# Altium schematic symbol library Integrated-Circuit.SchLib: 59 symbols
Pins are listed as number, name and electrical type; pins without a type are passive.

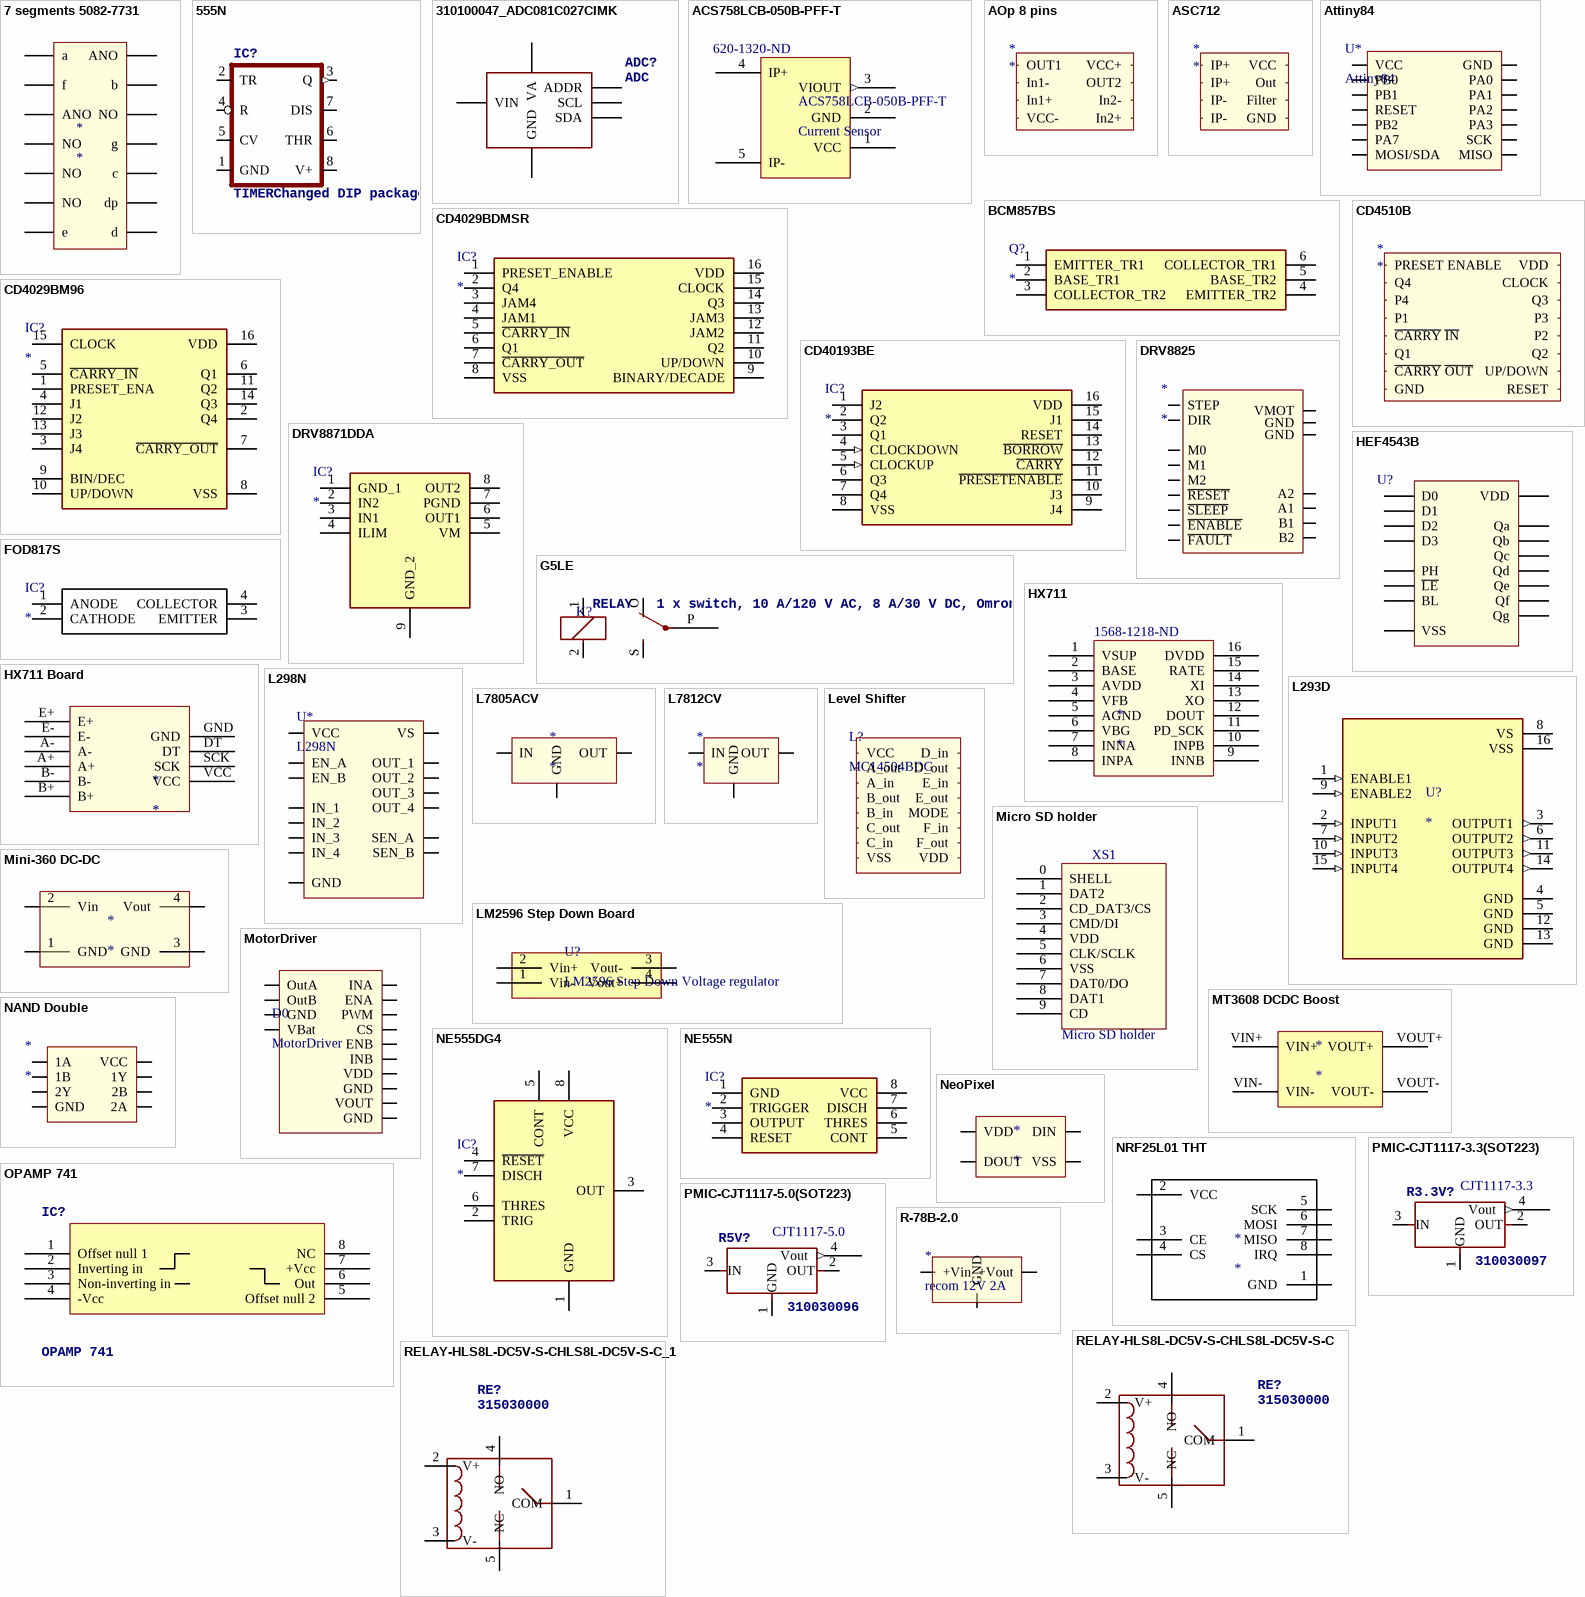
[diagram p0: symbols 7 segments 5082-7731 to RELAY-HLS8L-DC5V-S-CHLS8L-DC5V-S-C_1]

## 7 segments 5082-7731
designator *
Afficheur à 7 segments LED
pins: 18 a, 19 f, 20 ANO, 21 NO, 22 NO, 23 NO, 24 e, 25 d, 26 dp, 27 c, 28 g, 29 NO, 30 b, 31 ANO

## 555N
designator IC?, comment TIMERChanged DIP package to have round (not oval) pin pads    http://www.ladyada.net/library/pcb/eaglelibrary.html
footprint DIL08-ROUND
pins: 1 GND (power), 2 TR, 3 Q (out), 4 R, 5 CV, 6 THR, 7 DIS, 8 V+ (power)

## 310100047_ADC081C027CIMK
designator ADC?, comment ADC
footprint SOT236
pins: 1 VA (power), 2 GND (power), 3 VIN, 4 ADDR, 5 SCL, 6 SDA

## ACS758LCB-050B-PFF-T
designator ACS758LCB-050B-PFF-T, comment Current Sensor  Supplier Part Number 1: 620-1320-ND
Thermally Enhanced, Fully Integrated, Hall Effect-Based  Linear Current Sensor IC with 100 µΩ Current Conductor; Manufacturer: Allegro MicroSystems, LLC; Manufacturer Part Number: ACS758LCB-050B-PFF-T; For Measuring: AC/DC; Sensor Type: Hall Effect, Open Loop; Current - Sensing: 50A; Number of Channels: 1; Output: Ratiometric, Voltage; Sensitivity: 40mV/A; Frequency: DC ~ 120kHz; Linearity: ±1%; Accuracy: ±2%; Voltage - Supply: 3 V ~ 5.5 V; Response Time: 4µs; Current - Supply (Max): 13.5mA; Polarization: Bidirectional; Supplier 1: Digi-Key; RoHS: RoHS Compliant; Category: Sensors, Transducers; Stock 1: 7507; Pricing 1: 1=7.98, 5=7, 10=6.3, 25=5.6, 50=5.18, 100=4.48, 500=4.2, 1000=3.92, 5000=3.724 (USD); Packaging: Tube; Operating Temperature: -40°C ~ 150°C; Mounting Type: Through Hole; Package / Case: 5-CB Formed Leads, PFF; ComponentLink1URL: http://www.allegromicro.com/en/Products/Part_Numbers/0758/0758.pdf; ComponentLink1Description: http://www.allegromicro.com/en/Products/Part_Numbers/0758/0758.pdf
footprint ACS758LCB-050B-PFF-T
pins: 1 VCC (power), 2 GND (power), 3 VIOUT (out), 4 IP+ (power), 5 IP- (power)

## AOp 8 pins
designator *
footprint SO8
pins: 1 OUT1, 2 In1-, 3 In1+, 4 VCC-, 5 In2+, 6 In2-, 7 OUT2, 8 VCC+

## ASC712
designator *
footprint SOIC 8 (Footprint not found)
pins: 1 IP+, 2 IP+, 3 IP-, 4 IP-, 5 GND, 6 Filter, 7 Out, 8 VCC

## Attiny84
designator U*
footprint Attiny84 SOIC
pins: 1 VCC, 2 PB0, 3 PB1, 4 RESET, 5 PB2, 6 PA7, 7 MOSI/SDA, 8 MISO, 9 SCK, 10 PA3, 11 PA2, 12 PA1, 13 PA0, 14 GND

## BCM857BS
designator Q?
Transistor; Manufacturer_Name: Nexperia; Manufacturer_Part_Number: BCM857BS; Datasheet Link: https://assets.nexperia.com/documents/data-sheet/BCM857BV_BS_DS.pdf; Height: 1.1mm; Mouser Part Number: N/A; Mouser Price/Stock: https://www.mouser.co.uk/ProductDetail/Nexperia/BCM857BS?qs=vHuUswq2%252Bsx3907O7VVxDg%3D%3D
footprint SOT65P210X110-6N
pins: 1 EMITTER_TR1, 2 BASE_TR1, 3 COLLECTOR_TR2, 4 EMITTER_TR2, 5 BASE_TR2, 6 COLLECTOR_TR1

## CD4029BDMSR
designator IC?
Integrated Circuit; Manufacturer_Name: Renesas Electronics; Manufacturer_Part_Number: CD4029BDMSR; Datasheet Link: https://www.renesas.com/en-us/www/doc/datasheet/cd4029bms.pdf; Height: 5.08mm
footprint DIP762W66P254L2134H508Q16N
pins: 1 PRESET_ENABLE, 2 Q4, 3 JAM4, 4 JAM1, 5 ~{CARRY_IN}, 6 Q1, 7 ~{CARRY_OUT}, 8 VSS, 9 BINARY/DECADE, 10 UP/DOWN, 11 Q2, 12 JAM2, 13 JAM3, 14 Q3, 15 CLOCK, 16 VDD

## CD4029BM96
designator IC?
Integrated Circuit; Manufacturer_Name: Texas Instruments; Manufacturer_Part_Number: CD4029BM96; Datasheet Link: http://www.ti.com/lit/gpn/cd4029b; Height: 1.75mm; Arrow Part Number: CD4029BM96; Arrow Price/Stock: https://www.arrow.com/en/products/cd4029bm96/texas-instruments; Mouser Part Number: 595-CD4029BM96; Mouser Price/Stock: https://www.mouser.co.uk/ProductDetail/Texas-Instruments/CD4029BM96?qs=LU5rZWrBGo0isl%252BErG%2F5MQ%3D%3D
footprint SOIC127P600X175-16N
pins: 1 PRESET_ENA, 2 Q4, 3 J4, 4 J1, 5 ~{CARRY_IN}, 6 Q1, 7 ~{CARRY_OUT}, 8 VSS, 9 BIN/DEC, 10 UP/DOWN, 11 Q2, 12 J2, 13 J3, 14 Q3, 15 CLOCK, 16 VDD

## CD4510B
designator *
pins: 33 PRESET ENABLE, 34 Q4, 35 P4, 36 P1, 37 ~{CARRY} ~{IN}, 38 Q1, 39 ~{CARRY} ~{OUT}, 40 GND, 41 RESET, 42 UP/DOWN, 43 Q2, 44 P2, 45 P3, 46 Q3, 47 CLOCK, 48 VDD

## CD40193BE
designator IC?
Integrated Circuit; Manufacturer_Name: Texas Instruments; Manufacturer_Part_Number: CD40193BE; Datasheet Link: http://www.ti.com/lit/ds/symlink/cd40192b.pdf; Height: 5.08mm; Arrow Part Number: CD40193BE; Arrow Price/Stock: https://www.arrow.com/en/products/cd40193be/texas-instruments; Mouser Part Number: 595-CD40193BE; Mouser Price/Stock: https://www.mouser.co.uk/ProductDetail/Texas-Instruments/CD40193BE?qs=D5pVkbrsqqK9UQwfGopiNQ%3D%3D
footprint DIP794W53P254L1930H508Q16N
pins: 1 J2, 2 Q2, 3 Q1, 4 CLOCKDOWN (in), 5 CLOCKUP (in), 6 Q3, 7 Q4, 8 VSS (power), 9 J4, 10 J3, 11 ~{PRESETENABLE}, 12 ~{CARRY}, 13 ~{BORROW}, 14 RESET, 15 J1, 16 VDD (power)

## DRV8825
designator *
Stepper Driver Module
footprint DRV8825 (Stepper Driver)
pins: 1 ~{ENABLE}, 2 M0, 3 M1, 4 M2, 5 ~{RESET}, 6 ~{SLEEP}, 7 STEP, 8 DIR, 9 GND, 10 ~{FAULT}, 11 A2, 12 A1, 13 B1, 14 B2, 15 GND, 16 VMOT

## DRV8871DDA
designator IC?
Integrated Circuit; Manufacturer_Name: Texas Instruments; Manufacturer_Part_Number: DRV8871DDA; Datasheet Link: http://www.ti.com/lit/ds/symlink/drv8871.pdf; Height: 1.7mm; Mouser Part Number: 595-DRV8871DDA; Mouser Price/Stock: https://www.mouser.co.uk/ProductDetail/Texas-Instruments/DRV8871DDA?qs=Fobv33ltQGiluwfB07aSBw%3D%3D; Arrow Part Number: DRV8871DDA; Arrow Price/Stock: https://www.arrow.com/en/products/drv8871dda/texas-instruments?utm_currency=USD&region=nac
footprint SOIC127P600X170-9N
pins: 1 GND_1, 2 IN2, 3 IN1, 4 ILIM, 5 VM, 6 OUT1, 7 PGND, 8 OUT2, 9 GND_2

## FOD817S
designator IC?
Optocoupleur; Manufacturer_Name: ON Semiconductor; Manufacturer_Part_Number: FOD817S; Datasheet Link: https://componentsearchengine.com/Datasheets/1/FOD817S.pdf; Height: 3.85mm; Arrow Part Number: FOD817S; Arrow Price/Stock: https://www.arrow.com/en/products/fod817s/on-semiconductor; Mouser Part Number: 512-FOD817S; Mouser Price/Stock: https://www.mouser.co.uk/ProductDetail/ON-Semiconductor-Fairchild/FOD817S?qs=32VJUWvZ7Xab7eM00K2DFA%3D%3D
footprint SOP254P1016X385-4N
pins: 1 ANODE, 2 CATHODE, 3 EMITTER, 4 COLLECTOR

## G5LE
designator K?, comment RELAY   1 x switch, 10 A/120 V AC, 8 A/30 V DC, Omron
footprint G5LE
pins: 1, 2, O, P Common, S

## HEF4543B
designator U?, comment 7 segment driver  (value not drawn)
footprint HEF4543 (SOP, 16-Leads, Body 9,90x3,90mm, Pitch 1,27mm, IPC Medium Density)
pins: 1 ~{LE}, 2 D2, 3 D1, 4 D3, 5 D0, 6 PH, 7 BL, 8 VSS, 9 Qa, 10 Qb, 11 Qc, 12 Qd, 13 Qe, 14 Qg, 15 Qf, 16 VDD

## HX711
designator *  Supplier Part Number 1: 1568-1218-ND
Supplier 1: Digi-Key
footprint SOP16L
pins: 1 VSUP, 2 BASE, 3 AVDD, 4 VFB, 5 AGND, 6 VBG, 7 INNA, 8 INPA, 9 INNB, 10 INPB, 11 PD_SCK, 12 DOUT, 13 XO, 14 XI, 15 RATE, 16 DVDD

## HX711 Board
designator *
footprint HX711 Board
pins: A+, A-, B+, B-, DT, E+, E-, GND, SCK, VCC

## L293D
designator U?
Bipolar Motor Driver - Parallel 16-PowerDIP; MP: L293D; MF: STMicroelectronics; Package: DIP-16 STMicroelectronics; SnapEDA_Link: https://www.snapeda.com/parts/L293D/STMicroelectronics/view-part/?ref=snap; Purchase-URL: https://pricing.snapeda.com/search/part/L293D/?ref=eda; Check_prices: https://www.snapeda.com/parts/L293D/STMicroelectronics/view-part/?ref=eda; Availability: In Stock; Value: *; Price: None
footprint DIP880W50P254L2000H510Q16
pins: 1 ENABLE1 (in), 2 INPUT1 (in), 3 OUTPUT1 (out), 4 GND (power), 5 GND (power), 6 OUTPUT2 (out), 7 INPUT2 (in), 8 VS (power), 9 ENABLE2 (in), 10 INPUT3 (in), 11 OUTPUT3 (out), 12 GND (power), 13 GND (power), 14 OUTPUT4 (out), 15 INPUT4 (in), 16 VSS (power)

## L298N
designator U*
Motor Driver 2 outputs
footprint L298N (Motor driver, 2 channel)
pins: 1 SEN_A, 2 OUT_1, 3 OUT_2, 4 VS, 5 IN_1, 6 EN_A, 7 IN_2, 8 GND, 9 VCC, 10 IN_3, 11 EN_B, 12 IN_4, 13 OUT_3, 14 OUT_4, 15 SEN_B

## L7805ACV
designator *
Conv 5V 1A
pins: 1 IN, 2 GND, 3 OUT

## L7812CV
designator *
Conv L 12V 1.5A
footprint TO-220
pins: 1 IN, 2 GND, 3 OUT

## Level Shifter
designator L?, comment MC14504BDG
pins: 1 VCC, 2 A_out, 3 A_in, 4 B_out, 5 B_in, 6 C_out, 7 C_in, 8 VSS, 9 D_in, 10 D_out, 11 E_in, 12 E_out, 13 MODE, 14 F_in, 15 F_out, 16 VDD

## LM2596 Step Down Board
designator U?, comment LM2596 Step Down Voltage regulator
footprint LM2596 DC-DC
pins: 1 Vin-, 2 Vin+, 3 Vout-, 4 Vout+

## Micro SD holder
designator XS1
footprint 112C-TBAR-R02
pins: 0 SHELL, 1 DAT2, 2 CD_DAT3/CS, 3 CMD/DI, 4 VDD, 5 CLK/SCLK, 6 VSS, 7 DAT0/DO, 8 DAT1, 9 CD

## Mini-360 DC-DC
designator *
footprint Mini-360 (DC-DC Power source)
pins: 1 GND (power), 2 Vin (power), 3 GND (power), 4 Vout (power)

## MotorDriver
designator D0
Motor Driver VNH5019
footprint MotorDriver (Footprint not found)
pins: 0 OutA, 1 OutB, 2 GND, 3 VBat, 4 INA, 5 ENA, 6 PWM, 7 CS, 8 ENB, 9 INB, 10 VDD, 11 GND, 12 VOUT, 13 GND

## MT3608 DCDC Boost
designator *
footprint MT3608 (Step Up board)
pins: VIN+, VIN-, VOUT+, VOUT-

## NAND Double
designator *
footprint SOIC_8 (SOIC, 8-Leads, Body 4,90x3,90mm, Pitch 1,27mm, IPC Medium Density)
pins: 1 1A, 2 1B, 3 2Y, 4 GND, 5 2A, 6 2B, 7 1Y, 8 VCC

## NE555DG4
designator IC?
Integrated Circuit; Manufacturer_Name: Texas Instruments; Manufacturer_Part_Number: NE555DG4; Datasheet Link: http://www.mouser.com/ds/2/405/ne555-557499.pdf; Height: 1.75mm; Mouser Part Number: 595-NE555DG4; Mouser Price/Stock: https://www.mouser.co.uk/ProductDetail/Texas-Instruments/NE555DG4?qs=rLYyFdxB%2FmoTBxH9w0Er2A%3D%3D; Arrow Part Number: NE555DG4; Arrow Price/Stock: https://www.arrow.com/en/products/ne555dg4/texas-instruments
footprint SOIC127P600X175-8N
pins: 1 GND, 2 TRIG, 3 OUT, 4 ~{RESET}, 5 CONT, 6 THRES, 7 DISCH, 8 VCC

## NE555N
designator IC?
Integrated Circuit; Manufacturer_Name: HGSEMI; Manufacturer_Part_Number: NE555N; Datasheet Link: https://datasheet.lcsc.com/szlcsc/1906111919_HGSEMI-NE555N_C398063.pdf; Height: 5.33mm
footprint DIP762W56P254L959H533Q8N
pins: 1 GND, 2 TRIGGER, 3 OUTPUT, 4 RESET, 5 CONT, 6 THRES, 7 DISCH, 8 VCC

## NeoPixel
designator *
footprint Neopixel (Footprint not found); pin to pad 1>2 2>3 3>4 4>1
pins: 1 DOUT, 2 VSS, 3 DIN, 4 VDD

## NRF25L01 THT
designator *
footprint NRF25L01 THT
pins: 1 GND (power), 2 VCC (power), 3 CE, 4 CS, 5 SCK, 6 MOSI, 7 MISO, 8 IRQ

## OPAMP 741
designator IC?
footprint DIL08-ROUND
footprint DIL08-ROUND
pins: 1 Offset null 1, 2 Inverting in, 3 Non-inverting in, 4 -Vcc (power), 5 Offset null 2, 6 Out, 7 +Vcc (power), 8 NC

## PMIC-CJT1117-3.3(SOT223)
designator R3.3V?, comment 310030097  MPN: CJT1117-3.3
footprint SOT-223
pins: 1 GND, 2 OUT, 3 IN, 4 Vout (out)

## PMIC-CJT1117-5.0(SOT223)
designator R5V?, comment 310030096  MPN: CJT1117-5.0
footprint SOT-223
pins: 1 GND, 2 OUT, 3 IN, 4 Vout (out)

## R-78B-2.0
designator *, comment recom 12V 2A
footprint R-78B
pins: 1 +Vin, 2 GND, 3 +Vout

## RELAY-HLS8L-DC5V-S-CHLS8L-DC5V-S-C
designator RE?, comment 315030000
footprint REY5-19.0X15.0X15.0MM
pins: 1 COM, 2 V+, 3 V-, 4 NO, 5 NC

## RELAY-HLS8L-DC5V-S-CHLS8L-DC5V-S-C_1
designator RE?, comment 315030000
footprint REY5-19.0X15.0X15.0MM
pins: 1 COM, 2 V+, 3 V-, 4 NO, 5 NC

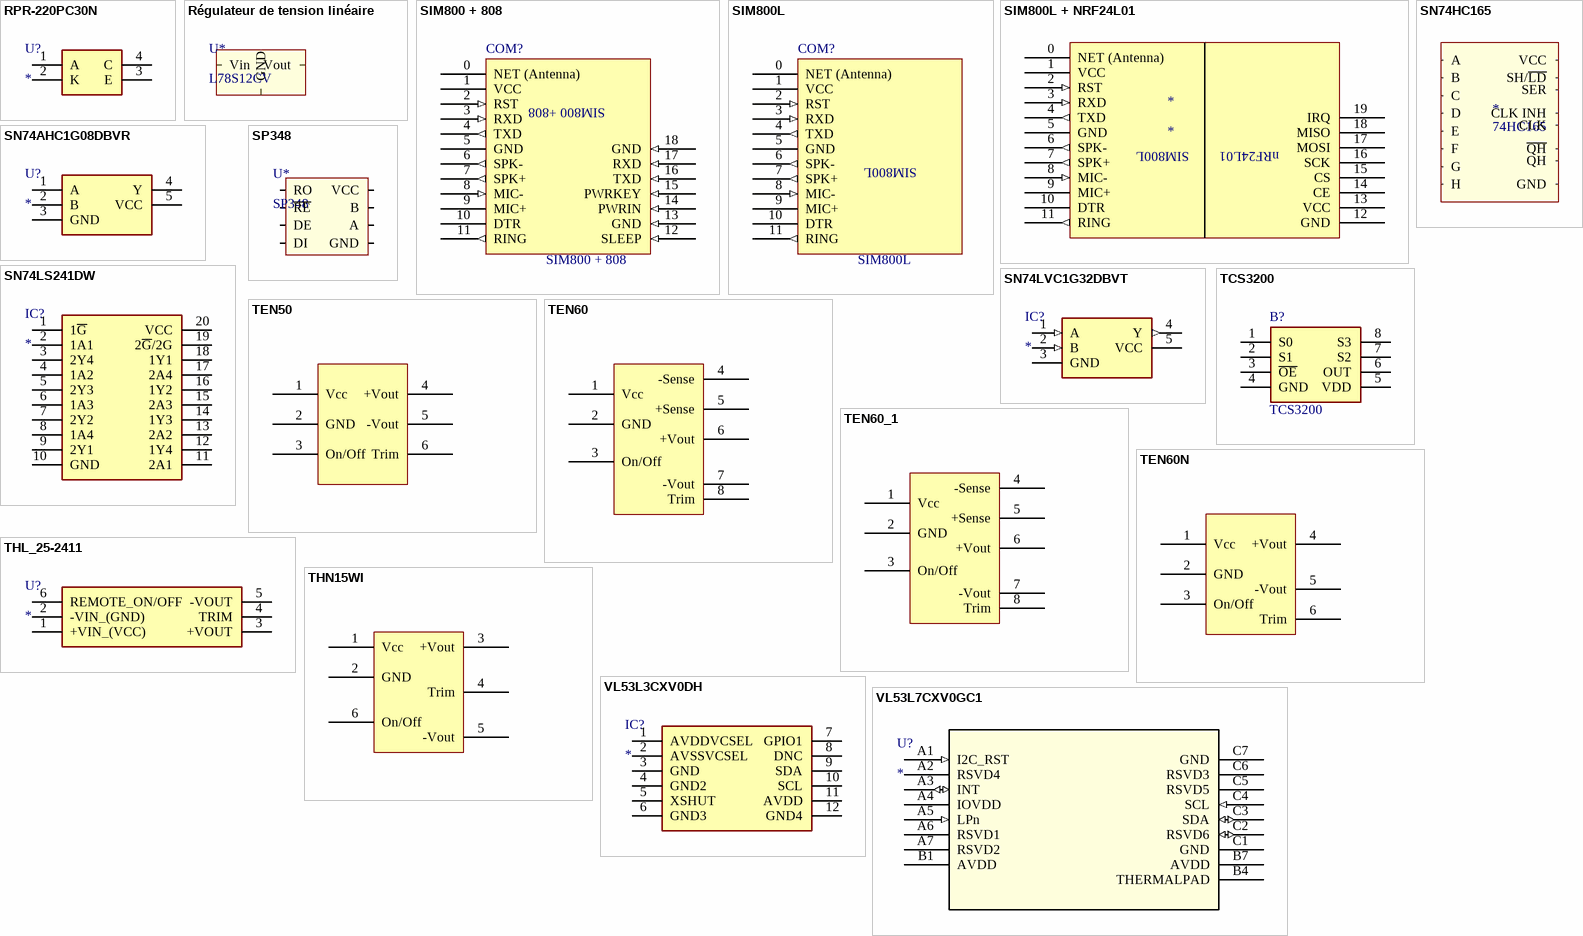
[diagram p1: symbols RPR-220PC30N to VL53L7CXV0GC1]

## RPR-220PC30N
designator U?
Capteur optique réfléchissant; Manufacturer_Name: ROHM Semiconductor; Manufacturer_Part_Number: RPR-220PC30N; Datasheet Link: http://rohmfs.rohm.com/en/products/databook/datasheet/opto/optical_sensor/photosensor/rpr-220pc30n.pdf; Height: 6.5mm; Mouser Part Number: 755-RPR-220PC30N; Mouser Price/Stock: https://www.mouser.co.uk/ProductDetail/ROHM-Semiconductor/RPR-220PC30N?qs=U%2FDGNQcZ28ppQpuQ5bm7oA%3D%3D; Arrow Part Number: RPR-220PC30N; Arrow Price/Stock: https://www.arrow.com/en/products/rpr-220pc30n/rohm-semiconductor
footprint RPR220PC30N
pins: 1 A, 2 K, 3 E, 4 C

## Régulateur de tension linéaire
designator U*, comment L78S12CV
Vout: *; A: *
pins: 1 Vout, 2 GND, 3 Vin

## SIM800 + 808
designator COM?
footprint SIM800 + bk-808
pins: 0 NET (Antenna) (hiz), 1 VCC (power), 2 RST (in), 3 RXD (in), 4 TXD (out), 5 GND (hiz), 6 SPK- (out), 7 SPK+ (out), 8 MIC- (in), 9 MIC+ (hiz), 10 DTR (power), 11 RING (out), 12 SLEEP (in), 13 GND (in), 14 PWRIN (in), 15 PWRKEY (in), 16 TXD (in), 17 RXD (in), 18 GND (in)
text: SIM800 +808

## SIM800L
designator COM?
footprint SIM800L
pins: 0 NET (Antenna) (hiz), 1 VCC (power), 2 RST (in), 3 RXD (in), 4 TXD (out), 5 GND (hiz), 6 SPK- (out), 7 SPK+ (out), 8 MIC- (in), 9 MIC+ (hiz), 10 DTR (power), 11 RING (out)

## SIM800L + NRF24L01
designator *
footprint SIM800L+NRF24L01
pins: 0 NET (Antenna) (hiz), 1 VCC (power), 2 RST (in), 3 RXD (in), 4 TXD (out), 5 GND (hiz), 6 SPK- (out), 7 SPK+ (out), 8 MIC- (in), 9 MIC+ (hiz), 10 DTR (power), 11 RING (out), 12 GND (power), 13 VCC (power), 14 CE (power), 15 CS (power), 16 SCK (power), 17 MOSI (power), 18 MISO (power), 19 IRQ (power)
text: SIM800L; nRF24L01

## SN74AHC1G08DBVR
designator U?
Undefined or Miscellaneous; Manufacturer_Name: Texas Instruments; Manufacturer_Part_Number: SN74AHC1G08DBVR; Datasheet Link: http://www.ti.com/general/docs/lit/getliterature.tsp?genericPartNumber=SN74AHC1G08&&fileType=pdf; Height: 1.45mm; Arrow Part Number: SN74AHC1G08DBVR; Arrow Price/Stock: https://www.arrow.com/en/products/sn74ahc1g08dbvr/texas-instruments; Mouser Part Number: 595-SN74AHC1G08DBVR; Mouser Price/Stock: https://www.mouser.co.uk/ProductDetail/Texas-Instruments/SN74AHC1G08DBVR?qs=tJ5HNKWh3OXzGHgsEkuHbw%3D%3D
footprint SOT95P280X145-5N
pins: 1 A, 2 B, 3 GND, 4 Y, 5 VCC

## SN74HC165
designator *, comment 74HC165
8 bits Shift Register
footprint 16 pins SOIC, TI (SOIC, 16-Leads, Body 9,90x3,90mm, Pitch 1,27mm, IPC Medium Density)
pins: 1 SH/~{LD}, 2 CLK, 3 E, 4 F, 5 G, 6 H, 7 ~{QH}, 8 GND, 9 QH, 10 SER, 11 A, 12 B, 13 C, 14 D, 15 CLK INH, 16 VCC

## SN74LS241DW
designator IC?
Integrated Circuit; Manufacturer_Name: Texas Instruments; Manufacturer_Part_Number: SN74LS241DW; Datasheet Link: http://www.ti.com/lit/gpn/SN74LS241; Height: 2.65mm; Arrow Part Number: SN74LS241DW; Arrow Price/Stock: https://www.arrow.com/en/products/sn74ls241dw/texas-instruments; Mouser Part Number: 595-SN74LS241DW; Mouser Price/Stock: https://www.mouser.co.uk/ProductDetail/Texas-Instruments/SN74LS241DW?qs=SL3LIuy2dWxYUNFhEYJjgw%3D%3D
footprint SOIC127P1030X265-20N
pins: 1 1~{G}, 2 1A1, 3 2Y4, 4 1A2, 5 2Y3, 6 1A3, 7 2Y2, 8 1A4, 9 2Y1, 10 GND, 11 2A1, 12 1Y4, 13 2A2, 14 1Y3, 15 2A3, 16 1Y2, 17 2A4, 18 1Y1, 19 2~{G}/2G, 20 VCC

## SN74LVC1G32DBVT
designator IC?
Integrated Circuit; Manufacturer_Name: Texas Instruments; Manufacturer_Part_Number: SN74LVC1G32DBVT; Datasheet Link: http://www.ti.com/lit/ds/symlink/sn74lvc1g32.pdf; Height: 1.45mm; Arrow Part Number: SN74LVC1G32DBVT; Arrow Price/Stock: https://www.arrow.com/en/products/sn74lvc1g32dbvt/texas-instruments; Mouser Part Number: 595-SN74LVC1G32DBVT; Mouser Price/Stock: https://www.mouser.co.uk/ProductDetail/Texas-Instruments/SN74LVC1G32DBVT?qs=3pnr37ZAbK8uO%252Bsik6I8Zw%3D%3D
footprint SOT95P280X145-5N
pins: 1 A (in), 2 B (in), 3 GND (power), 4 Y (out), 5 VCC (power)

## SP348
designator U*
RS-485 Transceivers
footprint SP348 (SOIC, SP348 Transceiver)
pins: 1 RO, 2 ~{RE}, 3 DE, 4 DI, 5 GND, 6 A, 7 B, 8 VCC

## TCS3200
designator B?
High-Resolution Conversion of Light Intensity to Frequency  Programmable Color and Full-Scale Output Frequency  Communicates Directly With a Microcontroller  Single-Supply Operation (2.7 V to 5.5 V)  Power Down Feature  Nonlinearity Error Typically 0.2% at 50 kHz; Manufacturer_Name: ams OSRAM; Geometry.Height: 1.75mm; Manufacturer_Part_Number: TCS3200; Mouser Part Number: N/A; Mouser Price/Stock: https://www.mouser.co.uk/ProductDetail/ams-OSRAM/TCS3200?qs=N6LLV8I65%252BcsUeP7A1YMoQ%3D%3D; Arrow Part Number: *; Arrow Price/Stock: *; Datasheet Link: https://ams.com/documents/20143/36005/TCS3200_DS000107_3-00.pdf/c53d702f-63aa-eda1-745f-d513aa4f535f
footprint SOIC127P600X175-8N
pins: 1 S0, 2 S1, 3 ~{OE}, 4 GND, 5 VDD, 6 OUT, 7 S2, 8 S3

## TEN50
designator TEN50-1
TRACO TEN50; LatestRevisionDate: 17-Jul-2002; LatestRevisionNote: Re-released for DXP Platform.; Publisher: Altium Limited
signal-integrity model Connector
footprint TRACO_2x1inch (Footprint not found)
pins: 1 Vcc, 2 GND, 3 On/Off, 4 +Vout, 5 -Vout, 6 Trim

## TEN60
designator TEN60-1
TRACO TEN60; LatestRevisionDate: 17-Jul-2002; LatestRevisionNote: Re-released for DXP Platform.; Publisher: Altium Limited
signal-integrity model Connector
footprint TRACO_2x2inch (Footprint not found)
pins: 1 Vcc, 2 GND, 3 On/Off, 4 -Sense, 5 +Sense, 6 +Vout, 7 -Vout, 8 Trim

## TEN60_1
designator TEN60-1, comment TEN60
TRACO TEN60; LatestRevisionDate: 17-Jul-2002; LatestRevisionNote: Re-released for DXP Platform.; Publisher: Altium Limited
signal-integrity model Connector
footprint TRACO_2x2inch (Footprint not found)
pins: 1 Vcc, 2 GND, 3 On/Off, 4 -Sense, 5 +Sense, 6 +Vout, 7 -Vout, 8 Trim

## TEN60N
designator TEN60N-1
TRACO TEN60N; LatestRevisionDate: 17-Jul-2002; LatestRevisionNote: Re-released for DXP Platform.; Publisher: Altium Limited
signal-integrity model Connector
footprint TRACO_2x1inch (Footprint not found)
pins: 1 Vcc, 2 GND, 3 On/Off, 4 +Vout, 5 -Vout, 6 Trim

## THL_25-2411
designator U?
Traco 25W (5V - 5A); Manufacturer_Name: Traco Power; Manufacturer_Part_Number: THL 25-2411; Datasheet Link: https://tracopower.com/thl25-datasheet/; Mouser Part Number: 495-THL25-2411; Mouser Price/Stock: https://www.mouser.co.uk/ProductDetail/TRACO-Power/THL-25-2411?qs=ckJk83FOD0UBC%2FZTne05Sg%3D%3D
footprint THL-25-4823WI
pins: 1 +VIN_(VCC), 2 -VIN_(GND), 3 +VOUT, 4 TRIM, 5 -VOUT, 6 REMOTE_ON/OFF

## THN15WI
designator THN15-1
TRACO THN15WI; LatestRevisionDate: 17-Jul-2002; LatestRevisionNote: Re-released for DXP Platform.; Publisher: Altium Limited
signal-integrity model Connector
footprint TRACO_1x1inch
pins: 1 Vcc, 2 GND, 3 +Vout, 4 Trim, 5 -Vout, 6 On/Off

## VL53L3CXV0DH
designator IC?
Integrated Circuit; Manufacturer_Name: STMicroelectronics; Manufacturer_Part_Number: VL53L3CXV0DH/1; Datasheet Link: https://www.st.com/resource/en/datasheet/vl53l3cx.pdf; Height: 1.4mm; Mouser Part Number: 511-VL53L3CXV0DH/1; Mouser Price/Stock: https://www.mouser.co.uk/ProductDetail/STMicroelectronics/VL53L3CXV0DH-1?qs=OlC7AqGiEDl6J00dxEJKnQ%3D%3D; Arrow Part Number: VL53L3CXV0DH/1; Arrow Price/Stock: https://www.arrow.com/en/products/vl53l3cxv0dh1/stmicroelectronics?region=nac
footprint VL53L3CXV0DH1
pins: 1 AVDDVCSEL, 2 AVSSVCSEL, 3 GND, 4 GND2, 5 XSHUT, 6 GND3, 7 GPIO1, 8 DNC, 9 SDA, 10 SCL, 11 AVDD, 12 GND4

## VL53L7CXV0GC1
designator U?
Capteur de distance ToF (Time-of-Flight); Mfr_Name: STMicroelectronics; RefDes: RefDes; Type: Type
footprint LGA16_OPTICAL-LINER_STM
pins: A1 I2C_RST (in), A2 RSVD4 (power), A3 INT (io), A4 IOVDD (power), A5 LPn (in), A6 RSVD1 (power), A7 RSVD2 (power), B1 AVDD (power), B4 THERMALPAD (power), B7 AVDD (power), C1 GND (power), C2 RSVD6 (io), C3 SDA (io), C4 SCL (in), C5 RSVD5, C6 RSVD3 (power), C7 GND (power)